# Altium schematic symbol library NTA4001NT1G.Schlib: 1 symbol
Pins are listed as number, name and electrical type; pins without a type are passive.

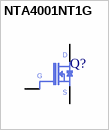
[diagram p0: symbol NTA4001NT1G]

## NTA4001NT1G
designator Q?  (value not drawn)
pins: 1 G, 2 S, 3 D